# Altium schematic symbol library UltraZohm_Analog_BreakoutBoard.SchLib: 8 symbols
Pins are listed as number, name and electrical type; pins without a type are passive.

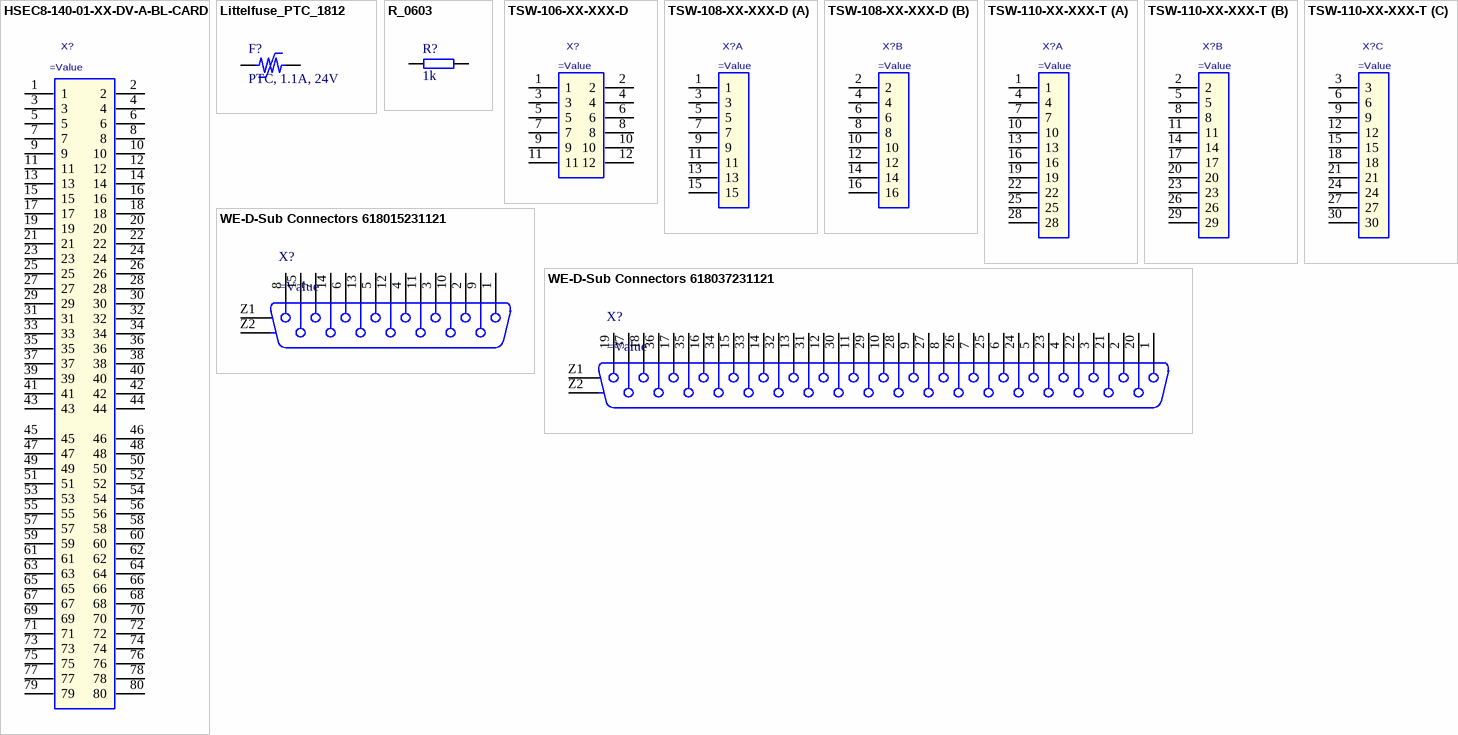
[diagram p0: symbols HSEC8-140-01-XX-DV-A-BL-CARD to WE-D-Sub Connectors 618037231121]

## HSEC8-140-01-XX-DV-A-BL-CARD
designator X?  (no BOM)
Mating Card Layout for HSEC8-140-01-XX-DV-A-BL; MPN: HSEC8-140-01-XX-DV-A-BL-CARD; MF: SAMTEC; Value: HSEC8-140-01-XX-DV-A-BL-CARD; Created: 2018_04_23_AGeiger
footprint HSEC8-140-01-XX-DV-A-BL-CARD
pins: 1, 2, 3, 4, 5, 6, 7, 8, 9, 10, 11, 12, 13, 14, 15, 16, 17, 18, 19, 20, 21, 22, 23, 24, 25, 26, 27, 28, 29, 30, 31, 32, 33, 34, 35, 36, 37, 38, 39, 40, 41, 42, 43, 44, 45, 46, 47, 48, 49, 50, 51, 52, 53, 54, 55, 56, 57, 58, 59, 60, 61, 62, 63, 64, 65, 66, 67, 68, 69, 70, 71, 72, 73, 74, 75, 76, 77, 78, 79, 80

## Littelfuse_PTC_1812
designator F?, comment PTC, 1.1A, 24V
Resettable PTC Polyfuse SMD, 1812, automotive; MPN: miniASMDC110F/24; MF: Littelfuse; Trip Current: 2.2A; Resistance: 0.18Ohm; Created: 2019_02_10_AGeiger; Package: 1812; ComponentLink1URL: https://www.littelfuse.com/~/media/electronics/datasheets/resettable_ptcs/littelfuse_ptc_surface_mount_catalog_datasheet.pdf.pdf; ComponentLink1Description: Datasheet; Value: PTC, 1.1A, 24V; Voltage: 24V; Hold Current: 1.1A
footprint 1812_PTC_Polyfuse_Littelfuse (Chip Fuse, 2-Leads, Body 4.6x3.24mm)
pins: 1, 2

## R_0603
designator R?, comment 1k
SMD Resistor 0603; Tolerance: 1%; Voltage: tbd; Package: 0603; Value: 1k; Created: 2018_09_06_AGeiger; Power: tbd; Supplier 1: *; Supplier Part Number 1: *
footprint R_0603_N (SMD Resistor, Body 1.6x0.8mm, IPC Medium Density)
pins: 1, 2

## TSW-106-XX-XXX-D
designator X?
Pin Header, 2.54mm; MPN: TSW-106-07-F-D; MF: SAMTEC; Value: TSW-106-07-F-D; Created: 2019_02_10_AGeiger
footprint TSW-106-XX-XXX-D (Pinheader, 2.54mm Pitch)
pins: 1, 2, 3, 4, 5, 6, 7, 8, 9, 10, 11, 12

## TSW-108-XX-XXX-D
designator X?
Pin Header, 2.54mm; MPN: TSW-108-07-F-D; MF: SAMTEC; Value: TSW-108-07-F-D; Created: 2019_02_10_AGeiger
footprint TSW-108-XX-XXX-D (Pinheader, 2.54mm Pitch)
part A pins: 1, 3, 5, 7, 9, 11, 13, 15
part B pins: 2, 4, 6, 8, 10, 12, 14, 16

## TSW-110-XX-XXX-T
designator X?
Pin Header, 2.54mm; MPN: TSW-110-07-F-T; MF: SAMTEC; Value: TSW-110-07-F-T; Created: 2019_02_10_AGeiger
footprint TSW-110-XX-XXX-T (Pinheader, 2.54mm Pitch)
part A pins: 1, 4, 7, 10, 13, 16, 19, 22, 25, 28
part B pins: 2, 5, 8, 11, 14, 17, 20, 23, 26, 29
part C pins: 3, 6, 9, 12, 15, 18, 21, 24, 27, 30

## WE-D-Sub Connectors 618015231121
designator X?
WR-DSUB Female Angled PCB Connector; MPN: 618015231121; ComponentLink1 Description: Manufacturer; ComponentLink2 Description: Datasheet; MF: Wuerth Elektronik; NoPins: 15; Value: 618015231121; ComponentLink1URL: http://www.we-online.de; ComponentLink2URL: http://katalog.we-online.de/em/datasheet/6180xx231121.pdf; Created: 2019_02_10_AGeiger
footprint 618015231121
pins: 1, 2, 3, 4, 5, 6, 7, 8, 9, 10, 11, 12, 13, 14, 15, Z1 GND, Z2 GND

## WE-D-Sub Connectors 618037231121
designator X?
WR-DSUB Female Angled PCB Connector; MPN: 618037231121; ComponentLink1 Description: Manufacturer; ComponentLink2 Description: Datasheet; MF: Wuerth Elektronik; NoPins: 37; Value: 618037231121; ComponentLink1URL: http://www.we-online.de; ComponentLink2URL: http://katalog.we-online.de/em/datasheet/6180xx231121.pdf; Created: 2019_02_09_AGeiger
footprint 618037231121
pins: 1, 2, 3, 4, 5, 6, 7, 8, 9, 10, 11, 12, 13, 14, 15, 16, 17, 18, 19, 20, 21, 22, 23, 24, 25, 26, 27, 28, 29, 30, 31, 32, 33, 34, 35, 36, 37, Z1 GND, Z2 GND